# Altium footprint library CartSimple.PCBLIB: 166 footprints (part 9 of 11)
Each footprint in its own frame and in the unit in brackets; x right, y up, seen from the top. Pads: shape width x height; smd on the part's side, far side on the other; paste and mask are expansions set on the pad; w line width, h text height; cw(c..) or ccw(c..) is an arc to the next point about the centre after c.
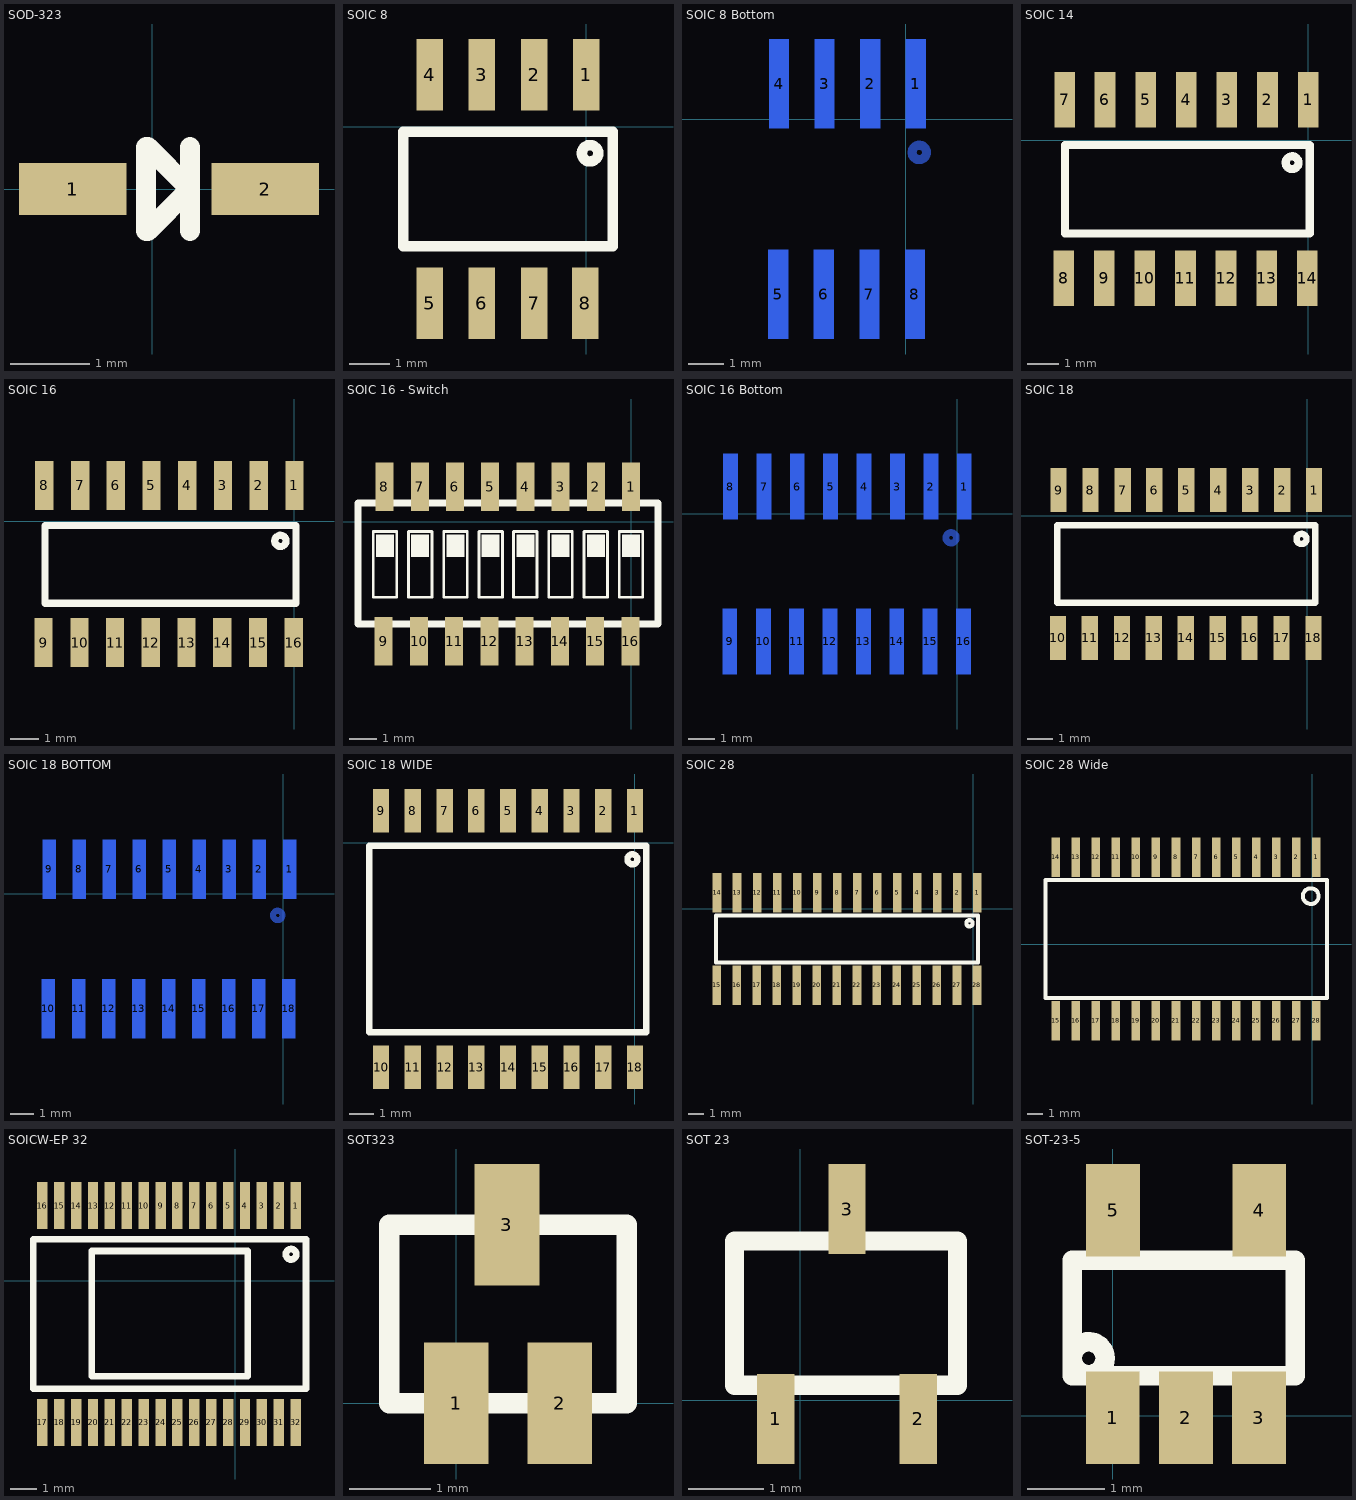
[diagram p8: the footprints below, top view; thin cyan lines are the x and y axes]

## SOD-323 [mm]
pads (2):
  rect 1.35x0.65 smd: 1(-1,0) 2(1.425,0)
Top Overlay:
  lines w0.254: -0.075,-0.525 -0.075,0.525 ; -0.05,-0.525 0.475,0 -0.05,0.525 ; 0.475,-0.525 0.475,0.525

## SOIC 8 [mm]
pads (8):
  rect 0.65x1.75 smd: 1(0,1.275) 2(-1.275,1.275) 3(-2.55,1.275) 4(-3.825,1.275) 5(-3.825,-4.325) 6(-2.55,-4.325) 7(-1.275,-4.325) 8(-0.025,-4.325)
Top Overlay:
  circle w0.254: c0.098,-0.65 r0.202
  lines w0.254: -4.475,-2.925 -4.475,-0.125 0.65,-0.125 0.65,-2.925 -4.475,-2.925

## SOIC 8 Bottom [mm]
pads (8):
  rect 0.55x2.5 smd far side: 1(0.275,1) 2(-1,1) 3(-2.275,1) 4(-3.55,1) 5(-3.575,-4.9) 6(-2.3,-4.9) 7(-1.025,-4.9) 8(0.25,-4.9)
Bottom Layer:
  circle w0.254: c0.373,-0.925 r0.202

## SOIC 14 [mm]
pads (14):
  rect 0.65x1.75 smd: 1(0,1.275) 2(-1.275,1.275) 3(-2.55,1.275) 4(-3.825,1.275) 5(-5.1,1.275) 6(-6.375,1.275) 7(-7.64,1.275) 8(-7.665,-4.325) 9(-6.4,-4.325) 10(-5.125,-4.325) 11(-3.85,-4.325) 12(-2.575,-4.325) 13(-1.3,-4.325) 14(-0.025,-4.325)
Top Overlay:
  circle w0.254: c-0.502,-0.7 r0.202
  lines w0.254: -7.625,-2.925 -7.625,-0.15 0.05,-0.15 0.05,-2.925 -7.625,-2.925

## SOIC 16 [mm] "SOIC"
pads (16):
  rect 0.65x1.75 smd: 1(0,1.275) 2(-1.275,1.275) 3(-2.55,1.275) 4(-3.825,1.275) 5(-5.1,1.275) 6(-6.375,1.275) 7(-7.64,1.275) 8(-8.925,1.275) 9(-8.95,-4.325) 10(-7.665,-4.325) 11(-6.4,-4.325) 12(-5.125,-4.325) 13(-3.85,-4.325) 14(-2.575,-4.325) 15(-1.3,-4.325) 16(-0.025,-4.325)
Top Overlay:
  circle w0.254: c-0.502,-0.7 r0.202
  lines w0.254: -8.9,-2.925 0.05,-2.925 0.05,-0.15 -8.9,-0.15 -8.9,-2.925

## SOIC 16 - Switch [mm]
pads (16):
  rect 0.65x1.75 smd: 1(0,1.275) 2(-1.275,1.275) 3(-2.55,1.275) 4(-3.825,1.275) 5(-5.1,1.275) 6(-6.375,1.275) 7(-7.64,1.275) 8(-8.925,1.275) 9(-8.95,-4.325) 10(-7.665,-4.325) 11(-6.4,-4.325) 12(-5.125,-4.325) 13(-3.85,-4.325) 14(-2.575,-4.325) 15(-1.3,-4.325) 16(-0.025,-4.325)
Top Overlay:
  rectangle: -0.325,-1.275 0.325,-0.45
  rectangle: -1.6,-1.275 -0.95,-0.45
  rectangle: -2.875,-1.275 -2.225,-0.45
  rectangle: -4.15,-1.275 -3.5,-0.45
  rectangle: -5.4,-1.275 -4.75,-0.45
  rectangle: -6.675,-1.275 -6.025,-0.45
  rectangle: -7.95,-1.275 -7.3,-0.45
  rectangle: -9.225,-1.275 -8.575,-0.45
  lines w0.1: -9.325,-2.725 -9.325,-0.35 -8.475,-0.35 -8.475,-2.725 -9.325,-2.725 ; -8.05,-2.725 -8.05,-0.35 -7.2,-0.35 -7.2,-2.725 -8.05,-2.725 ; -6.775,-2.725 -6.775,-0.35 -5.925,-0.35 -5.925,-2.725 -6.775,-2.725 ; -5.5,-2.725 -5.5,-0.35 -4.65,-0.35 -4.65,-2.725 -5.5,-2.725 ; -4.25,-2.725 -4.25,-0.35 -3.4,-0.35 -3.4,-2.725 -4.25,-2.725 ; -2.975,-2.725 -2.975,-0.35 -2.125,-0.35 -2.125,-2.725 -2.975,-2.725 ; -1.7,-2.725 -1.7,-0.35 -0.85,-0.35 -0.85,-2.725 -1.7,-2.725 ; -0.425,-2.725 -0.425,-0.35 0.425,-0.35 0.425,-2.725 -0.425,-2.725
  lines w0.254: -9.875,-3.7 0.975,-3.7 0.975,0.675 -9.875,0.675 -9.875,-3.7

## SOIC 16 Bottom [mm]
pads (16):
  rect 0.55x2.5 smd far side: 1(0.275,1.025) 2(-1,1.025) 3(-2.275,1.025) 4(-3.55,1.025) 5(-4.825,1.025) 6(-6.1,1.025) 7(-7.365,1.025) 8(-8.65,1.025) 9(-8.675,-4.875) 10(-7.39,-4.875) 11(-6.125,-4.875) 12(-4.85,-4.875) 13(-3.575,-4.875) 14(-2.3,-4.875) 15(-1.025,-4.875) 16(0.25,-4.875)
Bottom Layer:
  circle w0.254: c-0.227,-0.925 r0.202

## SOIC 18 [mm]
pads (18):
  rect 0.65x1.75 smd: 1(0.275,1.025) 2(-1,1.025) 3(-2.275,1.025) 4(-3.55,1.025) 5(-4.825,1.025) 6(-6.1,1.025) 7(-7.365,1.025) 8(-8.65,1.025) 9(-9.925,1.025) 10(-9.95,-4.875) 11(-8.675,-4.875) 12(-7.39,-4.875) 13(-6.125,-4.875) 14(-4.85,-4.875) 15(-3.575,-4.875) 16(-2.3,-4.875) 17(-1.025,-4.875) 18(0.25,-4.875)
Top Overlay:
  circle w0.254: c-0.227,-0.925 r0.202
  lines w0.254: -9.975,-3.475 0.325,-3.475 0.325,-0.375 -9.975,-0.375 -9.975,-3.475

## SOIC 18 BOTTOM [mm]
pads (18):
  rect 0.55x2.5 smd far side: 1(0.275,1.025) 2(-1,1.025) 3(-2.275,1.025) 4(-3.55,1.025) 5(-4.825,1.025) 6(-6.1,1.025) 7(-7.365,1.025) 8(-8.65,1.025) 9(-9.925,1.025) 10(-9.95,-4.875) 11(-8.675,-4.875) 12(-7.39,-4.875) 13(-6.125,-4.875) 14(-4.85,-4.875) 15(-3.575,-4.875) 16(-2.3,-4.875) 17(-1.025,-4.875) 18(0.25,-4.875)
Bottom Layer:
  circle w0.254: c-0.227,-0.925 r0.202

## SOIC 18 WIDE [mm]
pads (18):
  rect 0.65x1.75 smd: 1(0,1.275) 2(-1.275,1.275) 3(-2.55,1.275) 4(-3.825,1.275) 5(-5.1,1.275) 6(-6.375,1.275) 7(-7.64,1.275) 8(-8.925,1.275) 9(-10.2,1.275) 10(-10.2,-9.025) 11(-8.925,-9.025) 12(-7.64,-9.025) 13(-6.375,-9.025) 14(-5.1,-9.025) 15(-3.825,-9.025) 16(-2.55,-9.025) 17(-1.275,-9.025) 18(0,-9.025)
Top Overlay:
  circle w0.254: c-0.102,-0.675 r0.202
  lines w0.254: -10.675,-7.625 -10.675,-0.125 0.45,-0.125 0.45,-7.625 -10.675,-7.625

## SOIC 28 [mm]
pads (28):
  rect 0.55x2.5 smd: 1(0.275,1.025) 2(-1,1.025) 3(-2.275,1.025) 4(-3.55,1.025) 5(-4.825,1.025) 6(-6.1,1.025) 7(-7.365,1.025) 8(-8.65,1.025) 9(-9.925,1.025) 10(-11.2,1.025) 11(-12.475,1.025) 12(-13.74,1.025) 13(-15.025,1.025) 14(-16.3,1.025) 15(-16.325,-4.875) 16(-15.05,-4.875) 17(-13.765,-4.875) 18(-12.5,-4.875) 19(-11.225,-4.875) 20(-9.95,-4.875) 21(-8.675,-4.875) 22(-7.39,-4.875) 23(-6.125,-4.875) 24(-4.85,-4.875) 25(-3.575,-4.875) 26(-2.3,-4.875) 27(-1.025,-4.875) 28(0.25,-4.875)
Top Overlay:
  circle w0.254: c-0.227,-0.925 r0.202
  lines w0.254: -16.35,-3.425 -16.35,-0.425 0.325,-0.425 0.325,-3.425 -16.35,-3.425

## SOIC 28 Wide [mm]
pads (28):
  rect 0.55x2.5 smd: 1(0.25,5.525) 2(-1.025,5.525) 3(-2.3,5.525) 4(-3.575,5.525) 5(-4.85,5.525) 6(-6.125,5.525) 7(-7.39,5.525) 8(-8.675,5.525) 9(-9.95,5.525) 10(-11.225,5.525) 11(-12.5,5.525) 12(-13.765,5.525) 13(-15.05,5.525) 14(-16.325,5.525) 15(-16.325,-4.875) 16(-15.05,-4.875) 17(-13.765,-4.875) 18(-12.5,-4.875) 19(-11.225,-4.875) 20(-9.95,-4.875) 21(-8.675,-4.875) 22(-7.39,-4.875) 23(-6.125,-4.875) 24(-4.85,-4.875) 25(-3.575,-4.875) 26(-2.3,-4.875) 27(-1.025,-4.875) 28(0.25,-4.875)
Top Overlay:
  circle w0.254: c-0.101,3.05 r0.501
  lines w0.254: -16.975,-3.425 0.925,-3.425 0.925,4.075 -16.975,4.075 -16.975,-3.425

## SOICW-EP 32  [mm]
pads (32):
  rect 0.4x1.8 smd: 1(2.325,2.9) 2(1.675,2.9) 3(1.025,2.9) 4(0.375,2.9) 5(-0.275,2.9) 6(-0.925,2.9) 7(-1.575,2.9) 8(-2.225,2.9) 9(-2.875,2.9) 10(-3.525,2.9) 11(-4.175,2.9) 12(-4.825,2.9) 13(-5.475,2.9) 14(-6.125,2.9) 15(-6.775,2.9) 16(-7.425,2.9) 17(-7.425,-5.45) 18(-6.775,-5.45) 19(-6.125,-5.45) 20(-5.475,-5.45) 21(-4.825,-5.45) 22(-4.175,-5.45) 23(-3.525,-5.45) 24(-2.875,-5.45) 25(-2.225,-5.45) 26(-1.575,-5.45) 27(-0.925,-5.45) 28(-0.275,-5.45) 29(0.375,-5.45) 30(1.025,-5.45) 31(1.675,-5.45) 32(2.325,-5.45)
Top Overlay:
  circle w0.254: c2.148,1.025 r0.202
  lines w0.254: -7.775,-4.15 2.725,-4.15 2.725,1.6 -7.775,1.6 -7.775,-4.15 ; -5.525,-3.675 0.475,-3.675 0.475,1.15 -5.525,1.15 -5.525,-3.675

## SOT323 [mm]
pads (3):
  rect 0.8x1.5 smd: 1(0,0) 2(1.275,0) 3(0.625,2.2)
Top Overlay:
  lines w0.254: -0.825,0 2.1,0 2.1,2.2 -0.825,2.2 -0.825,0

## SOT 23 [mm]
pads (3):
  rect 0.5x1.2 smd: 1(-0.325,-0.25) 2(1.575,-0.25) 3(0.625,2.55)
Top Overlay:
  lines w0.254: -0.875,0.2 2.1,0.2 2.1,2.125 -0.875,2.125 -0.875,0.2

## SOT-23-5 [mm]
pads (5):
  rect 0.7x1.2 smd: 1(0,-0.025) 2(0.95,-0.025) 3(1.9,-0.025) 4(1.904,2.675) 5(0.004,2.675)
Top Overlay:
  circle w0.254: c-0.314,0.75 r0.214
  lines w0.254: -0.525,0.525 -0.525,2.025 2.375,2.025 2.375,0.525 -0.525,0.525